# EAGLE library part CC1190 (library TI)
CC1190 is a cost-effective and high-performance RF Front End for low-power and low-voltage wireless applications at 850-950 MHz. CC1190 is a range extender for the sub-1 GHz low-power RF transceivers, transmitters, and System-on-Chip devices from Texas Instruments.
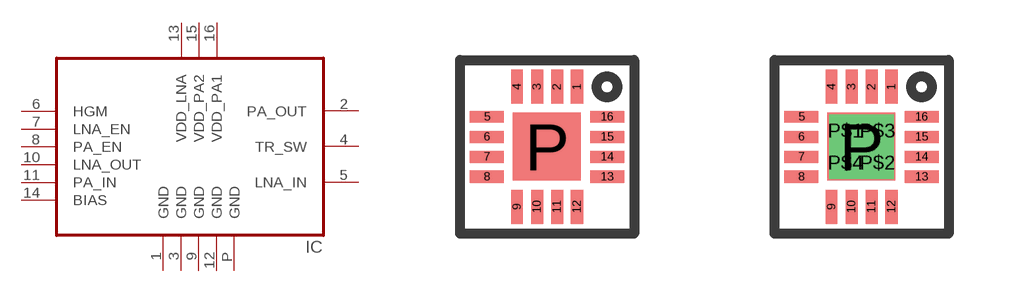
[diagram p28: symbol with the pads of QFN16; footprints QFN16, QFN16_GND_VIAS]

Designator prefix IC

## CC1190  [QFN16]
1  GND  pwr
2  PA_OUT
3  GND  pwr
4  TR_SW
5  LNA_IN
6  HGM
7  LNA_EN
8  PA_EN
9  GND  pwr
10  LNA_OUT
11  PA_IN
12  GND  pwr
13  VDD_LNA  pwr
14  BIAS
15  VDD_PA2  pwr
16  VDD_PA1  pwr
P  GND  pwr

## CC1190W/GNDVIAS  [QFN16_GND_VIAS]
Pads as for QFN16

## Footprint QFN16 (pad centres in mm)
QFN16 (Texas Instruments)
smd 0.3 x 0.85: 1 0.75,1.5; 2 0.25,1.5; 3 -0.25,1.5; 4 -0.75,1.5; 9 -0.75,-1.5; 10 -0.25,-1.5; 11 0.25,-1.5; 12 0.75,-1.5
smd 0.85 x 0.3: 5 -1.5,0.75; 6 -1.5,0.25; 7 -1.5,-0.25; 8 -1.5,-0.75; 13 1.5,-0.75; 14 1.5,-0.25; 15 1.5,0.25; 16 1.5,0.75
smd 1.7 x 1.7: P 0,0

## Footprint QFN16_GND_VIAS (pad centres in mm)
QFN16 with four vias in the center pad to aid in hand soldering the component down to the board. Use the tip of a soldering iron to heat the component from beneath. Apply heat long enough to melt the other pads.
smd 0.3 x 0.85: 1 0.75,1.5; 2 0.25,1.5; 3 -0.25,1.5; 4 -0.75,1.5; 9 -0.75,-1.5; 10 -0.25,-1.5; 11 0.25,-1.5; 12 0.75,-1.5
smd 0.85 x 0.3: 5 -1.5,0.75; 6 -1.5,0.25; 7 -1.5,-0.25; 8 -1.5,-0.75; 13 1.5,-0.75; 14 1.5,-0.25; 15 1.5,0.25; 16 1.5,0.75
smd 1.7 x 1.7: P 0,0
drill 0.3 pad 0.61 square: P$1 -0.4,0.4; P$2 0.4,-0.4; P$3 0.4,0.4; P$4 -0.4,-0.4